# Altium schematic symbol library AP1506-50K5G-13.SchLib: 1 symbol
Pins are listed as number, name and electrical type; pins without a type are passive.

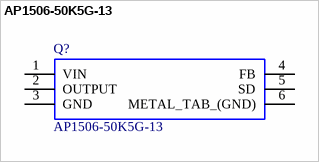
[diagram p0: symbol AP1506-50K5G-13]

## AP1506-50K5G-13
designator Q?
DC / DC converters in the housing TO263-5L, Voltage Regulator, Buck Converter, Switching Regulator; Manufacturer_Name: Diodes Inc.; Manufacturer_Part_Number: AP1506-50K5G-13; RS Part Number: *; RS Price/Stock: *; Arrow Part Number: AP1506-50K5G-13; Arrow Price/Stock: https://www.arrow.com/en/products/ap1506-50k5g-13/diodes-incorporated; Datasheet Link: https://www.diodes.com/assets/Datasheets/AP1506.pdf
footprint TO-263-5
pins: 1 VIN, 2 OUTPUT, 3 GND, 4 FB, 5 SD, 6 METAL_TAB_(GND)